# Altium footprint library STM32F334.PcbLib: 3 footprints
Each footprint in its own frame and in the unit in brackets; x right, y up, seen from the top. Pads: shape width x height; smd on the part's side, far side on the other; paste and mask are expansions set on the pad; w line width, h text height; cw(c..) or ccw(c..) is an arc to the next point about the centre after c.
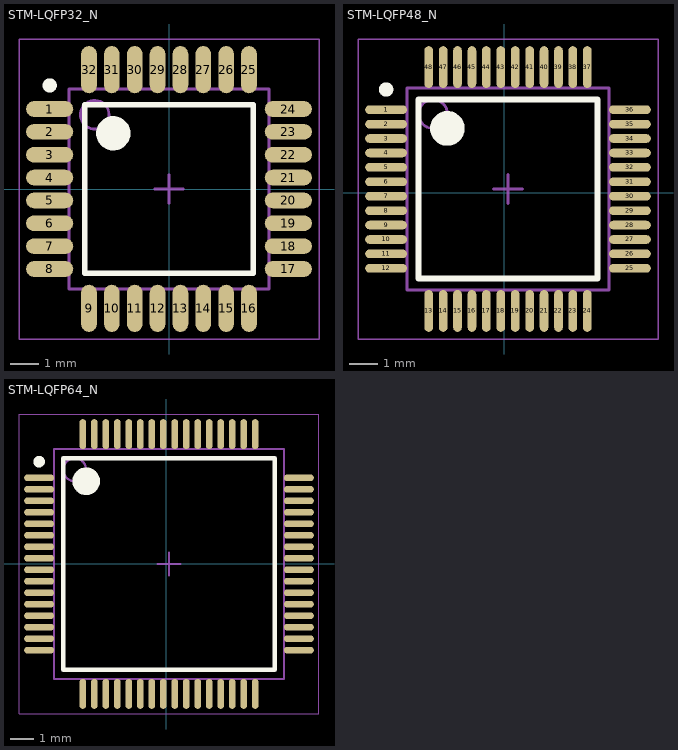
[diagram p0: the footprints below, top view; thin cyan lines are the x and y axes]

## STM-LQFP32_N [mm] "QFP, 32-Leads, Body 7x7mm, Pitch 0.8mm, IPC Medium Density"
height 1.6
pads (32):
  oval 1.65x0.55 smd: 1(-4.175,2.8) 2(-4.175,2) 3(-4.175,1.2) 4(-4.175,0.4) 5(-4.175,-0.4) 6(-4.175,-1.2) 7(-4.175,-2) 8(-4.175,-2.8) 17(4.175,-2.8) 18(4.175,-2) 19(4.175,-1.2) 20(4.175,-0.4) 21(4.175,0.4) 22(4.175,1.2) 23(4.175,2) 24(4.175,2.8)
  oval 0.55x1.65 smd: 9(-2.8,-4.175) 10(-2,-4.175) 11(-1.2,-4.175) 12(-0.4,-4.175) 13(0.4,-4.175) 14(1.2,-4.175) 15(2,-4.175) 16(2.8,-4.175) 25(2.8,4.175) 26(2,4.175) 27(1.2,4.175) 28(0.4,4.175) 29(-0.4,4.175) 30(-1.2,4.175) 31(-2,4.175) 32(-2.8,4.175)
Top Overlay:
  circle w0.6: c-1.95,1.95 r0.3
  circle w0.25: c-4.175,3.625 r0.125
  lines w0.2: -2.95,-2.95 2.95,-2.95 2.95,2.95 -2.95,2.95 -2.95,-2.95
Mechanical 13:
  circle w0.1: c-2.6,2.6 r0.5
  lines w0.1: -3.5,-3.5 3.5,-3.5 3.5,3.5 -3.5,3.5 -3.5,-3.5
Mechanical 15:
  lines w0.05: -5.25,-5.25 5.25,-5.25 5.25,5.25 -5.25,5.25 -5.25,-5.25
  lines w0.1: -0.5,0 0.5,0 ; 0,-0.5 0,0.5
3D body: height 1.6, standoff 0.05, extent -3.5,-3.5 3.5,3.5

## STM-LQFP48_N [mm]
pads (48):
  oval 1.45x0.3 smd: 1(-4.098,2.877) 2(-4.098,2.377) 3(-4.098,1.877) 4(-4.098,1.377) 5(-4.098,0.877) 6(-4.098,0.377) 7(-4.098,-0.123) 8(-4.098,-0.623) 9(-4.098,-1.123) 10(-4.098,-1.623) 11(-4.098,-2.123) 12(-4.098,-2.623) 25(4.352,-2.623) 26(4.352,-2.123) 27(4.352,-1.623) 28(4.352,-1.123) 29(4.352,-0.623) 30(4.352,-0.123) 31(4.352,0.377) 32(4.352,0.877) 33(4.352,1.377) 34(4.352,1.877) 35(4.352,2.377) 36(4.352,2.877)
  oval 0.3x1.45 smd: 13(-2.623,-4.098) 14(-2.123,-4.098) 15(-1.623,-4.098) 16(-1.123,-4.098) 17(-0.623,-4.098) 18(-0.123,-4.098) 19(0.377,-4.098) 20(0.877,-4.098) 21(1.377,-4.098) 22(1.877,-4.098) 23(2.377,-4.098) 24(2.877,-4.098) 37(2.877,4.352) 38(2.377,4.352) 39(1.877,4.352) 40(1.377,4.352) 41(0.877,4.352) 42(0.377,4.352) 43(-0.123,4.352) 44(-0.623,4.352) 45(-1.123,4.352) 46(-1.623,4.352) 47(-2.123,4.352) 48(-2.623,4.352)
Top Overlay:
  circle w0.6: c-1.973,2.227 r0.3
  circle w0.25: c-4.098,3.577 r0.125
  lines w0.2: -2.973,-2.973 3.227,-2.973 3.227,3.227 -2.973,3.227 -2.973,-2.973
Mechanical 13:
  circle w0.1: c-2.473,2.727 r0.5
  lines w0.1: -3.373,-3.373 3.627,-3.373 3.627,3.627 -3.373,3.627 -3.373,-3.373
Mechanical 15:
  lines w0.05: -5.073,-5.073 5.327,-5.073 5.327,5.327 -5.073,5.327 -5.073,-5.073
  lines w0.1: -0.373,0.127 0.627,0.127 ; 0.127,-0.373 0.127,0.627
3D body: height 1.6, standoff 0.05, extent -3.373,-3.373 3.627,3.627

## STM-LQFP64_N [mm]
pads (64):
  oval 1.3x0.3 smd: 1(-5.523,3.75) 2(-5.523,3.25) 3(-5.523,2.75) 4(-5.523,2.25) 5(-5.523,1.75) 6(-5.523,1.25) 7(-5.523,0.75) 8(-5.523,0.25) 9(-5.523,-0.25) 10(-5.523,-0.75) 11(-5.523,-1.25) 12(-5.523,-1.75) 13(-5.523,-2.25) 14(-5.523,-2.75) 15(-5.523,-3.25) 16(-5.523,-3.75) 33(5.777,-3.75) 34(5.777,-3.25) 35(5.777,-2.75) 36(5.777,-2.25) 37(5.777,-1.75) 38(5.777,-1.25) 39(5.777,-0.75) 40(5.777,-0.25) 41(5.777,0.25) 42(5.777,0.75) 43(5.777,1.25) 44(5.777,1.75) 45(5.777,2.25) 46(5.777,2.75) 47(5.777,3.25) 48(5.777,3.75)
  oval 0.3x1.3 smd: 17(-3.623,-5.65) 18(-3.123,-5.65) 19(-2.623,-5.65) 20(-2.123,-5.65) 21(-1.623,-5.65) 22(-1.123,-5.65) 23(-0.623,-5.65) 24(-0.123,-5.65) 25(0.377,-5.65) 26(0.877,-5.65) 27(1.377,-5.65) 28(1.877,-5.65) 29(2.377,-5.65) 30(2.877,-5.65) 31(3.377,-5.65) 32(3.877,-5.65) 49(3.877,5.65) 50(3.377,5.65) 51(2.877,5.65) 52(2.377,5.65) 53(1.877,5.65) 54(1.377,5.65) 55(0.877,5.65) 56(0.377,5.65) 57(-0.123,5.65) 58(-0.623,5.65) 59(-1.123,5.65) 60(-1.623,5.65) 61(-2.123,5.65) 62(-2.623,5.65) 63(-3.123,5.65) 64(-3.623,5.65)
Top Overlay:
  circle w0.6: c-3.473,3.6 r0.3
  circle w0.25: c-5.523,4.45 r0.125
  lines w0.2: -4.473,-4.6 4.727,-4.6 4.727,4.6 -4.473,4.6 -4.473,-4.6
Mechanical 13:
  circle w0.1: c-3.973,4.1 r0.5
  lines w0.1: -4.873,-5 5.127,-5 5.127,5 -4.873,5 -4.873,-5
Mechanical 15:
  lines w0.05: -6.398,-6.525 6.652,-6.525 6.652,6.525 -6.398,6.525 -6.398,-6.525
  lines w0.1: -0.373,0 0.627,0 ; 0.127,-0.5 0.127,0.5
3D body: height 1.6, standoff 0.05, extent -4.873,-5 5.127,5